# EAGLE library part MICROSD_SD_MODE (library openblw)
MOLEX - 49225-0821 - CONNECTEUR MICRO SD PUSH/PUSH REV Fabricant: MOLEX Code commande Farnell: 1366700 <http://fr.farnell.com/molex/49225-0821/connecteur-micro-sd-push-push-rev/dp/1366700?Ntt=1366700> Référence fabricant: 49225-0821
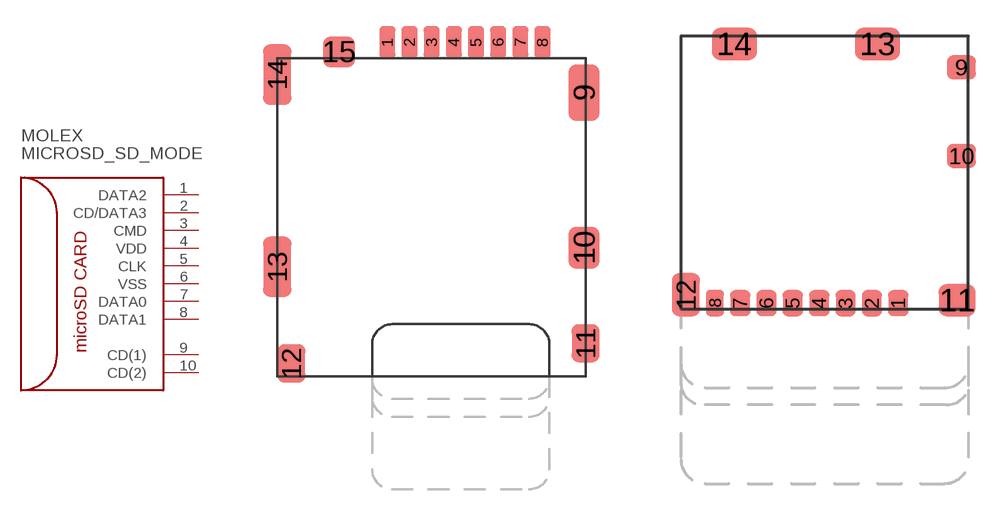
[diagram p7: symbol with the pads of MICRO_SD_CONNECTOR; footprints MICRO_SD_CONNECTOR, MOLEX_1040310811]

Designator prefix MOLEX

## MICROSD_SD_MODE  [MICRO_SD_CONNECTOR]
1  DATA2
2  CD/DATA3
3  CMD
4  VDD
5  CLK
6  VSS
7  DATA0
8  DATA1
9  CD(1)
10  CD(2)

## MICROSD_SD_MODEMOLEX  [MOLEX_1040310811]
Pads as for MICRO_SD_CONNECTOR

## Footprint MICRO_SD_CONNECTOR (pad centres in mm)
smd 0.8 x 1.6: 1 -2.03,8.2; 2 -0.93,8.2; 3 0.17,8.2; 4 1.27,8.2; 5 2.37,8.2; 6 3.47,8.2; 7 4.57,8.2; 8 5.67,8.2
smd 1.55 x 2.8: 9 7.735,5.7
smd 1.55 x 2.1: 10 7.735,-2
smd 1.4 x 1.9: 11 7.81,-6.75; 12 -6.79,-7.75
smd 1.4 x 3: 13 -7.49,-2.95; 14 -7.49,6.6
smd 1.6 x 1.55: 15 -4.43,7.725

## Footprint MOLEX_1040310811 (pad centres in mm)
smd 0.85 x 1.1: 1 3.075,-5.46; 2 1.975,-5.465; 3 0.88,-5.465; 4 -0.225,-5.46; 5 -1.33,-5.465; 6 -2.425,-5.46; 7 -3.52,-5.46
smd 0.75 x 1.1: 8 -4.575,-5.46
smd 1.2 x 1: 9 5.71,4.39; 10 5.71,0.685
smd 1.55 x 1.35: 11 5.535,-5.34
smd 1.17 x 1.8: 12 -5.785,-5.11
smd 1.9 x 1.35: 13 2.21,5.365; 14 -3.76,5.365